# Altium integrated library con-lumberg.IntLib: 62 symbols
Pins are listed as number, name and electrical type; pins without a type are passive.

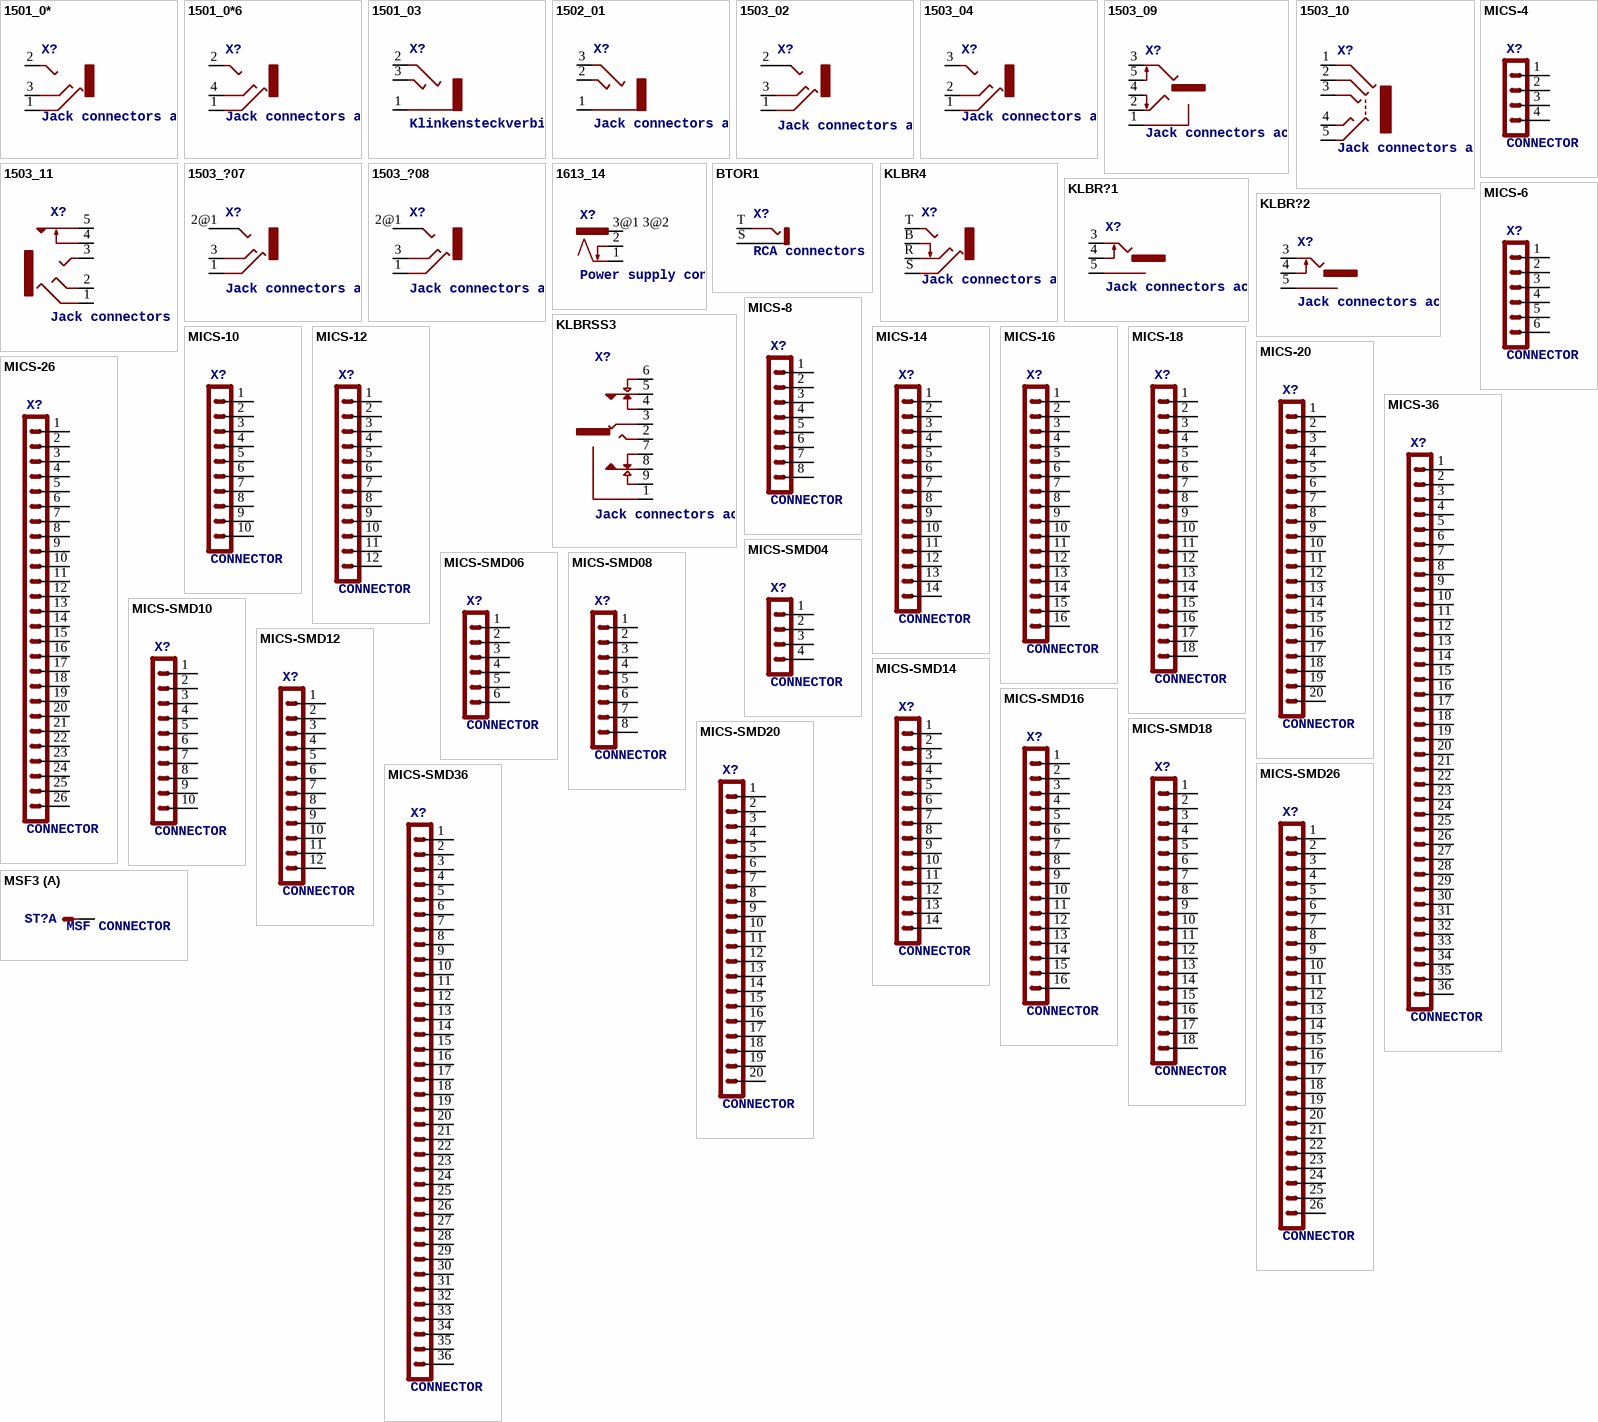
[diagram p0: symbols 1501_0* to MSF3]

## 1501_0*
designator X?, comment Jack connectors according to JISC 6560, 2.5 mm   Klinkensteckverbinder nach JISC 6560, 2,5 mm Source: http://www.lumberg.com/Produkte/PDFs/1501_05.pdfedit 1501_03 http://www.lumberg.com/Produkte/PDFs/1501_06.pdf
OC_FARNELL: 1216977; OC_NEWARK: unknown; OC_FARNELL: 1216978
footprint 1501_05
pins: 1, 2, 3

## 1501_0*6
designator X?, comment Jack connectors according to JISC 6560, 2.5 mm   Klinkensteckverbinder nach JISC 6560, 2,5 mm Source: http://www.lumberg.com/Produkte/PDFs/1501_05.pdfedit 1501_03 http://www.lumberg.com/Produkte/PDFs/1501_06.pdf
OC_FARNELL: 1308867; OC_NEWARK: unknown
footprint 1501_06
pins: 1, 2, 4 3

## 1501_03
designator X?, comment Klinkensteckverbinder nach JISC 6560, 2,5 mm   Jack connectors according to JISC 6560, 2.5 mm Source: http://www.lumberg.com/Produkte/PDFs/1501_03.pdf
OC_FARNELL: 1200127; OC_NEWARK: unknown
footprint 1501_03
pins: 1, 2, 3

## 1502_01
designator X?, comment Jack connectors according to JISC 6560, 3.5 mm   Klinkensteckverbinder nach JISC 6560, 3,5 mm Source: http://www.lumberg.com/Produkte/PDFs/1502_01.pdf
OC_FARNELL: 4739747; OC_NEWARK: unknown
footprint 1502_01
pins: 1, 2 3, 3 2

## 1503_02
designator X?, comment Jack connectors according to JISC 6560, 3.5 mm   Klinkeneinbaukupplung nach JISC 6560, 3,5 mm, 3-polig/stereo, abgewinkelte Ausführung, Surface-Mount-Technik (SMT)   Source: http://www.lumberg.com/Produkte/PDFs/1503_02.pdf
OC_FARNELL: 1216979; OC_NEWARK: unknown
footprint 1503_02
pins: 1, 2, 2@2 2@1, 3

## 1503_04
designator X?, comment Jack connectors according to JISC 6560, 3.5 mm, IP 57   Klinkensteckverbinder nach JISC 6560, 3,5 mm, IP 57 Source: http://www.lumberg.com/Produkte/PDFs/1503_04.pdf
OC_FARNELL: 1216981; OC_NEWARK: unknown
footprint 1503_04
pins: 1, 2 3, 3 2

## 1503_09
designator X?, comment Jack connectors according to JISC 6560, 3.5 mm   Klinkeneinbaukupplung nach JISC 6560, 3,5 mm, 3-polig/ stereo, abgewinkelte Ausführung, mit 2 Öffnern und Lötaugen, für Leiterplatten Rückseitenmontage   Source: http://www.lumberg.com/Produkte/PDFs/1503_09.pdf
OC_FARNELL: 1243244; OC_NEWARK: unknown
footprint 1503_09
pins: 1, 2, 3, 4, 5

## 1503_10
designator X?, comment Jack connectors according to JISC 6560, 3.5 mm   Klinkeneinbaukupplung, 3,5 mm, 4-polig/stereo, abgewinkelte Ausführung Source: http://www.lumberg.de/Produkte/PDFs/1503_10.pdf
OC_FARNELL: 1308868; OC_NEWARK: unknown
footprint 1503_10
pins: 1, 2, 3, 4, 5

## 1503_11
designator X?, comment Jack connectors according to JISC 6560, 3.5 mm   Klinkeneinbaukupplung nach JISC 6560, 3,5 mm, 3-polig/ stereo, stehende Ausführung, mit Öffner, für Leiterplatten Source: http://www.lumberg.com/Produkte/PDFs/1503_11.pdf
OC_FARNELL: 1308869; OC_NEWARK: unknown
footprint 1503_11
pins: 1, 2, 3, 4, 5

## 1503_?07
designator X?, comment Jack connectors according to JISC 6560, 3.5 mm   Klinkensteckverbinder nach JISC 6560, 3,5 mm Source: http://www.lumberg.com/Produkte/PDFs/1503_08.pdf
OC_FARNELL: unknown; OC_NEWARK: unknown
footprint 1503_07
pins: 1, 2@1 2, 2@2 2@1, 3

## 1503_?08
designator X?, comment Jack connectors according to JISC 6560, 3.5 mm   Klinkensteckverbinder nach JISC 6560, 3,5 mm Source: http://www.lumberg.com/Produkte/PDFs/1503_08.pdf
OC_FARNELL: unknown; OC_NEWARK: unknown
footprint 1503_08
pins: 1, 2@1 2, 2@2 2@1, 3

## 1613_14
designator X?, comment Power supply connectors / Netzgeräte-Steckverbinder   Source:  Data sheet
MPN: 1613 14; MF: LUMBERG; OC_FARNELL: 1243245
footprint 1613_14
pins: 1, 2, 3@1 3@2 3

## BTOR1
designator X?, comment RCA connectors according to JEITA RC-5231 Cinch   RCA-Einbaukupplung nach JEITA RC-5231, stehende Ausführung Source: http://www.lumberg.de/Produkte/PDFs/BTOR1.pdf
OC_FARNELL: 1217030; OC_NEWARK: unknown
footprint BTOR1
pins: S 2, S@1 2@1, S@2 2@2, S@3 2@3, T 1

## KLBR4
designator X?, comment Jack connectors according to JISC 6560, 3.5 mm   Klinkeneinbaukupplung nach JISC 6560, 3,5 mm, 3-polig/ stereo, abgewinkelte Ausführung, mit Öffner, für Leiterplatten   Source:  Data sheet
MPN: KLBR 4; OC_FARNELL: 1217016; OC_NEWARK: 97K2709
footprint KLBR4
pins: B, R, S, T

## KLBR?1
designator X?, comment Jack connectors according to JISC 6560, 2.5mm / 3.5 mm   Klinkensteckverbinder nach JISC 6560, 2.5mm / 3,5 mm Source: http://www.lumberg.com/Produkte/PDFs/KLBR2.pdf  www.lumberg.com/Produkte/PDFs/KLBR1.pdf
MPN: KLBR 1; OC_FARNELL: 1200140; OC_NEWARK: 97K2707
footprint KLBR1
pins: 3, 4, 5

## KLBR?2
designator X?, comment Jack connectors according to JISC 6560, 2.5mm / 3.5 mm   Klinkensteckverbinder nach JISC 6560, 2.5mm / 3,5 mm Source: http://www.lumberg.com/Produkte/PDFs/KLBR2.pdf  www.lumberg.com/Produkte/PDFs/KLBR1.pdf
OC_FARNELL: unknown; OC_NEWARK: unknown
footprint KLBR2
pins: 3, 4, 5

## KLBRSS3
designator X?, comment Jack connectors according to JISC 6560, 6.35 mm   Klinkeneinbaukupplung nach JISC 6560, 6,35 mm, 3-polig/stereo, abgewinkelte Ausführung, mit 2 Umschaltern, Leiterplatten Rückseitenmontage Source: http://www.lumberg.de/Produkte/PDFs/KLBRSS3.pdf
OC_FARNELL: 1200145; OC_NEWARK: unknown
footprint KLBRSS3
pins: 1, 2, 3, 4, 5, 6, 7, 8, 9

## MICS-4
designator X?, comment CONNECTOR
OC_FARNELL: unknown; OC_NEWARK: unknown
footprint MICS-4
pins: 1, 2, 3, 4

## MICS-6
designator X?, comment CONNECTOR
OC_FARNELL: unknown; OC_NEWARK: unknown
footprint MICS-6
pins: 1, 2, 3, 4, 5, 6

## MICS-8
designator X?, comment CONNECTOR
OC_FARNELL: unknown; OC_NEWARK: unknown
footprint MICS-8
pins: 1, 2, 3, 4, 5, 6, 7, 8

## MICS-10
designator X?, comment CONNECTOR
OC_FARNELL: unknown; OC_NEWARK: unknown
footprint MICS-10
pins: 1, 2, 3, 4, 5, 6, 7, 8, 9, 10

## MICS-12
designator X?, comment CONNECTOR
OC_FARNELL: 808910; OC_NEWARK: unknown
footprint MICS-12
pins: 1, 2, 3, 4, 5, 6, 7, 8, 9, 10, 11, 12

## MICS-14
designator X?, comment CONNECTOR
OC_FARNELL: unknown; OC_NEWARK: unknown
footprint MICS-14
pins: 1, 2, 3, 4, 5, 6, 7, 8, 9, 10, 11, 12, 13, 14

## MICS-16
designator X?, comment CONNECTOR
OC_FARNELL: unknown; OC_NEWARK: unknown
footprint MICS-16
pins: 1, 2, 3, 4, 5, 6, 7, 8, 9, 10, 11, 12, 13, 14, 15, 16

## MICS-18
designator X?, comment CONNECTOR
OC_FARNELL: unknown; OC_NEWARK: unknown
footprint MICS-18
pins: 1, 2, 3, 4, 5, 6, 7, 8, 9, 10, 11, 12, 13, 14, 15, 16, 17, 18

## MICS-20
designator X?, comment CONNECTOR
MPN: MICS 20; OC_FARNELL: 1216998; OC_NEWARK: 97K5081
footprint MICS-20
pins: 1, 2, 3, 4, 5, 6, 7, 8, 9, 10, 11, 12, 13, 14, 15, 16, 17, 18, 19, 20

## MICS-26
designator X?, comment CONNECTOR
OC_FARNELL: unknown; OC_NEWARK: unknown
footprint MICS-26
pins: 1, 2, 3, 4, 5, 6, 7, 8, 9, 10, 11, 12, 13, 14, 15, 16, 17, 18, 19, 20, 21, 22, 23, 24, 25, 26

## MICS-36
designator X?, comment CONNECTOR
OC_FARNELL: 871266; OC_NEWARK: unknown
footprint MICS-36
pins: 1, 2, 3, 4, 5, 6, 7, 8, 9, 10, 11, 12, 13, 14, 15, 16, 17, 18, 19, 20, 21, 22, 23, 24, 25, 26, 27, 28, 29, 30, 31, 32, 33, 34, 35, 36

## MICS-SMD04
designator X?, comment CONNECTOR
OC_FARNELL: unknown; OC_NEWARK: unknown
footprint MICSMD04
pins: 1, 2, 3, 4

## MICS-SMD06
designator X?, comment CONNECTOR
OC_FARNELL: unknown; OC_NEWARK: unknown
footprint MICSMD06
pins: 1, 2, 3, 4, 5, 6

## MICS-SMD08
designator X?, comment CONNECTOR
OC_FARNELL: unknown; OC_NEWARK: unknown
footprint MICSMD08
pins: 1, 2, 3, 4, 5, 6, 7, 8

## MICS-SMD10
designator X?, comment CONNECTOR
OC_FARNELL: unknown; OC_NEWARK: unknown
footprint MICSMD10
pins: 1, 2, 3, 4, 5, 6, 7, 8, 9, 10

## MICS-SMD12
designator X?, comment CONNECTOR
OC_FARNELL: unknown; OC_NEWARK: unknown
footprint MICSMD12
pins: 1, 2, 3, 4, 5, 6, 7, 8, 9, 10, 11, 12

## MICS-SMD14
designator X?, comment CONNECTOR
OC_FARNELL: unknown; OC_NEWARK: unknown
footprint MICSMD14
pins: 1, 2, 3, 4, 5, 6, 7, 8, 9, 10, 11, 12, 13, 14

## MICS-SMD16
designator X?, comment CONNECTOR
OC_FARNELL: unknown; OC_NEWARK: unknown
footprint MICSMD16
pins: 1, 2, 3, 4, 5, 6, 7, 8, 9, 10, 11, 12, 13, 14, 15, 16

## MICS-SMD18
designator X?, comment CONNECTOR
OC_FARNELL: unknown; OC_NEWARK: unknown
footprint MICSMD18
pins: 1, 2, 3, 4, 5, 6, 7, 8, 9, 10, 11, 12, 13, 14, 15, 16, 17, 18

## MICS-SMD20
designator X?, comment CONNECTOR
OC_FARNELL: unknown; OC_NEWARK: unknown
footprint MICSMD20
pins: 1, 2, 3, 4, 5, 6, 7, 8, 9, 10, 11, 12, 13, 14, 15, 16, 17, 18, 19, 20

## MICS-SMD26
designator X?, comment CONNECTOR
OC_FARNELL: unknown; OC_NEWARK: unknown
footprint MICSMD26
pins: 1, 2, 3, 4, 5, 6, 7, 8, 9, 10, 11, 12, 13, 14, 15, 16, 17, 18, 19, 20, 21, 22, 23, 24, 25, 26

## MICS-SMD36
designator X?, comment CONNECTOR
OC_FARNELL: unknown; OC_NEWARK: unknown
footprint MICSMD36
pins: 1, 2, 3, 4, 5, 6, 7, 8, 9, 10, 11, 12, 13, 14, 15, 16, 17, 18, 19, 20, 21, 22, 23, 24, 25, 26, 27, 28, 29, 30, 31, 32, 33, 34, 35, 36

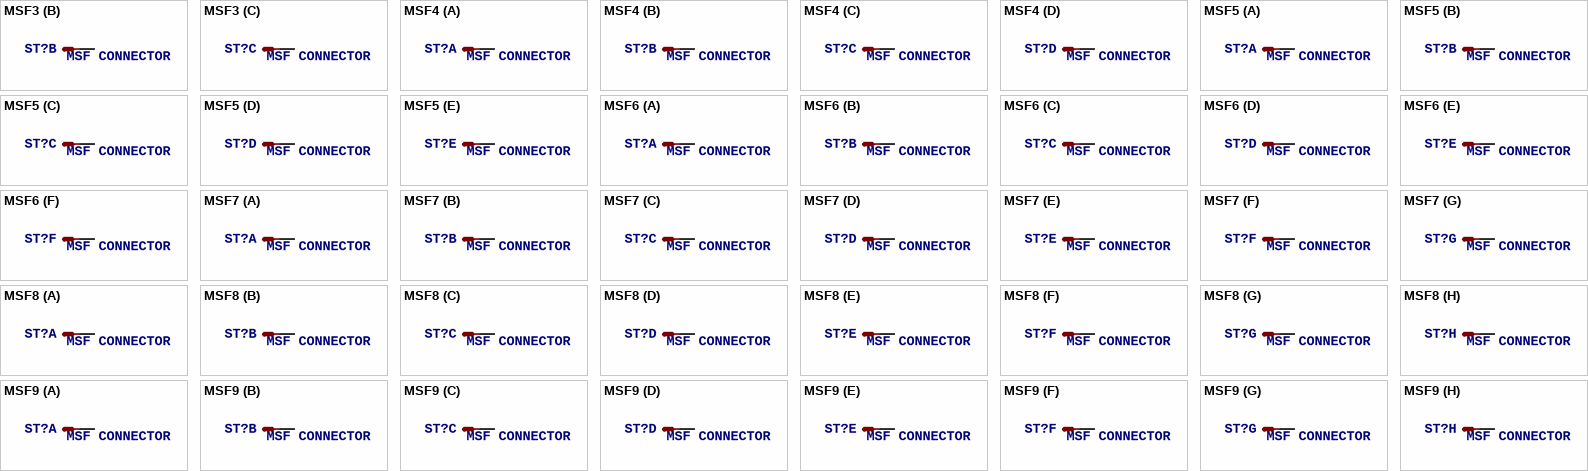
[diagram p1: symbols MSF3 to MSF9]

## MSF3
designator ST?, comment MSF CONNECTOR
OC_FARNELL: unknown; OC_NEWARK: unknown
footprint MSF3
part A pins: 1 S
part B pins: 2 S
part C pins: 3 S

## MSF4
designator ST?, comment MSF CONNECTOR
OC_FARNELL: unknown; OC_NEWARK: unknown
footprint MSF4
part A pins: 1 S
part B pins: 2 S
part C pins: 3 S
part D pins: 4 S

## MSF5
designator ST?, comment MSF CONNECTOR
OC_FARNELL: unknown; OC_NEWARK: unknown
footprint MSF5
part A pins: 1 S
part B pins: 2 S
part C pins: 3 S
part D pins: 4 S
part E pins: 5 S

## MSF6
designator ST?, comment MSF CONNECTOR
OC_FARNELL: unknown; OC_NEWARK: unknown
footprint MSF6
part A pins: 1 S
part B pins: 2 S
part C pins: 3 S
part D pins: 4 S
part E pins: 5 S
part F pins: 6 S

## MSF7
designator ST?, comment MSF CONNECTOR
OC_FARNELL: unknown; OC_NEWARK: unknown
footprint MSF7
part A pins: 1 S
part B pins: 2 S
part C pins: 3 S
part D pins: 4 S
part E pins: 5 S
part F pins: 6 S
part G pins: 7 S

## MSF8
designator ST?, comment MSF CONNECTOR
OC_FARNELL: unknown; OC_NEWARK: unknown
footprint MSF8
part A pins: 1 S
part B pins: 2 S
part C pins: 3 S
part D pins: 4 S
part E pins: 5 S
part F pins: 6 S
part G pins: 7 S
part H pins: 8 S

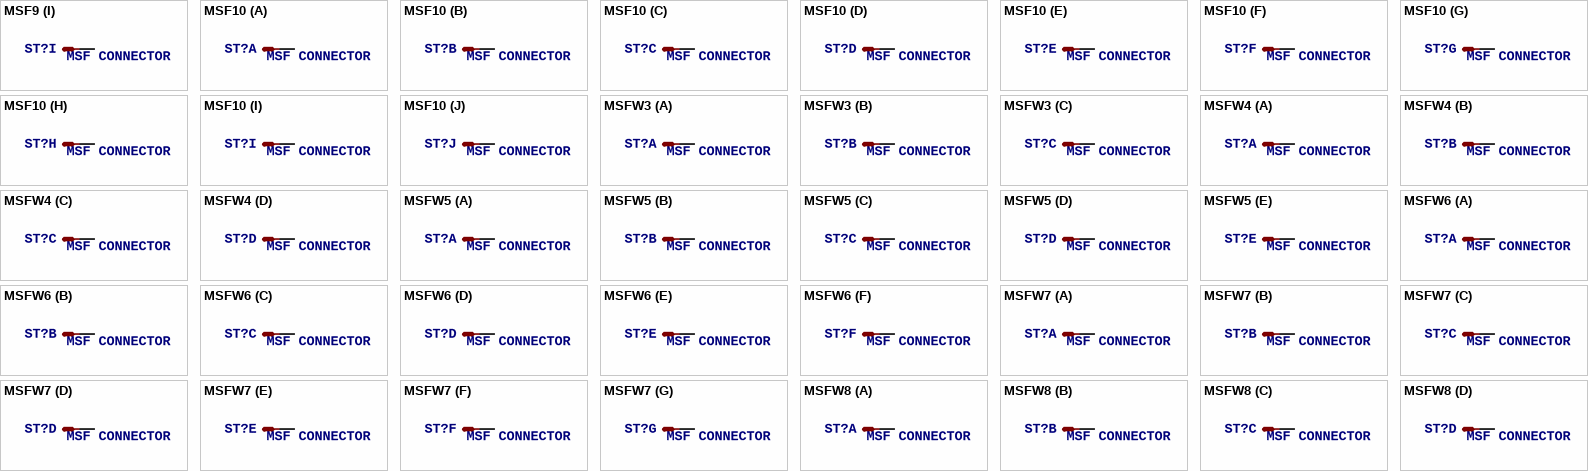
[diagram p2: symbols MSF9 to MSFW8]

## MSF9
designator ST?, comment MSF CONNECTOR
OC_FARNELL: unknown; OC_NEWARK: unknown
footprint MSF9
part A pins: 1 S
part B pins: 2 S
part C pins: 3 S
part D pins: 4 S
part E pins: 5 S
part F pins: 6 S
part G pins: 7 S
part H pins: 8 S
part I pins: 9 S

## MSF10
designator ST?, comment MSF CONNECTOR
MPN: 2,5 MSF 10; OC_FARNELL: 1212155; OC_NEWARK: 96K6056
footprint MSF10
part A pins: 1 S
part B pins: 2 S
part C pins: 3 S
part D pins: 4 S
part E pins: 5 S
part F pins: 6 S
part G pins: 7 S
part H pins: 8 S
part I pins: 9 S
part J pins: 10 S

## MSFW3
designator ST?, comment MSF CONNECTOR
OC_FARNELL: unknown; OC_NEWARK: unknown
footprint MSFW3
part A pins: 1 S
part B pins: 2 S
part C pins: 3 S

## MSFW4
designator ST?, comment MSF CONNECTOR
OC_FARNELL: unknown; OC_NEWARK: unknown
footprint MSFW4
part A pins: 1 S
part B pins: 2 S
part C pins: 3 S
part D pins: 4 S

## MSFW5
designator ST?, comment MSF CONNECTOR
OC_FARNELL: unknown; OC_NEWARK: unknown
footprint MSFW5
part A pins: 1 S
part B pins: 2 S
part C pins: 3 S
part D pins: 4 S
part E pins: 5 S

## MSFW6
designator ST?, comment MSF CONNECTOR
OC_FARNELL: unknown; OC_NEWARK: unknown
footprint MSFW6
part A pins: 1 S
part B pins: 2 S
part C pins: 3 S
part D pins: 4 S
part E pins: 5 S
part F pins: 6 S

## MSFW7
designator ST?, comment MSF CONNECTOR
OC_FARNELL: unknown; OC_NEWARK: unknown
footprint MSFW7
part A pins: 1 S
part B pins: 2 S
part C pins: 3 S
part D pins: 4 S
part E pins: 5 S
part F pins: 6 S
part G pins: 7 S

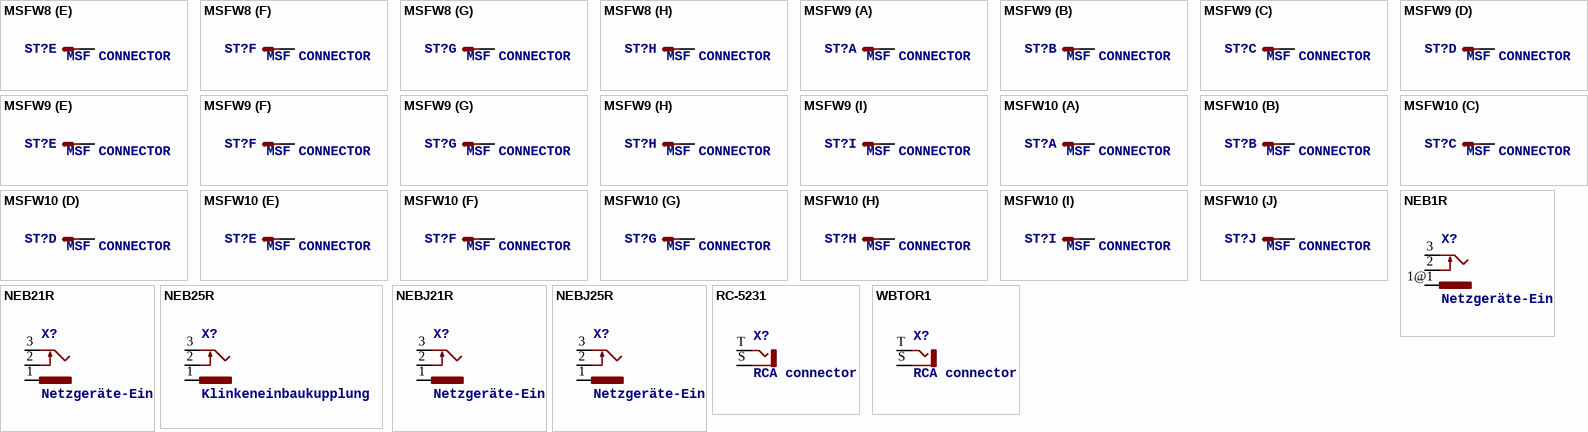
[diagram p3: symbols MSFW8 to WBTOR1]

## MSFW8
designator ST?, comment MSF CONNECTOR
OC_FARNELL: unknown; OC_NEWARK: unknown
footprint MSFW8
part A pins: 1 S
part B pins: 2 S
part C pins: 3 S
part D pins: 4 S
part E pins: 5 S
part F pins: 6 S
part G pins: 7 S
part H pins: 8 S

## MSFW9
designator ST?, comment MSF CONNECTOR
OC_FARNELL: unknown; OC_NEWARK: unknown
footprint MSFW9
part A pins: 1 S
part B pins: 2 S
part C pins: 3 S
part D pins: 4 S
part E pins: 5 S
part F pins: 6 S
part G pins: 7 S
part H pins: 8 S
part I pins: 9 S

## MSFW10
designator ST?, comment MSF CONNECTOR
OC_FARNELL: unknown; OC_NEWARK: unknown
footprint MSFW10
part A pins: 1 S
part B pins: 2 S
part C pins: 3 S
part D pins: 4 S
part E pins: 5 S
part F pins: 6 S
part G pins: 7 S
part H pins: 8 S
part I pins: 9 S
part J pins: 10 S

## NEB1R
designator X?, comment Netzgeräte-Einbaukupplung nach DIN 45323, abgewinkelte Ausführung, mit Flansch und Öffner   Source: http://www.lumberg.com/Produkte/PDFs/NEB1R.pdf
OC_FARNELL: unknown; OC_NEWARK: unknown
footprint NEB1R
pins: 1@1, 1@2, 2, 3

## NEB21R
designator X?, comment Netzgeräte-Einbaukupplung abgewinkelte Ausführung mit Öffner   Source: http://www.lumberg.com/Produkte/PDFs/NEB21R.pdf
MPN: NEB 21 R; OC_FARNELL: 1217037; OC_NEWARK: 97K6458
footprint NEB21R
pins: 1, 2, 3

## NEB25R
designator X?, comment Klinkeneinbaukupplung
OC_FARNELL: unknown; OC_NEWARK: unknown
footprint NEB25R
pins: 1, 2, 3

## NEBJ21R
designator X?, comment Netzgeräte-Einbaukupplung abgewinkelte Ausführung mit Öffner   Source: http://www.lumberg.com/Produkte/PDFs/NEB_J21R.pdf MARUSHIN ELECTRIC MFG.CO. LTD - Draw No: MJ196P - NEB J 21 R.pdf
MPN: NEB/J 21 R; OC_FARNELL: 1217039; OC_NEWARK: 97K6460
footprint NEBJ21R
pins: 1, 2, 3

## NEBJ25R
designator X?, comment Netzgeräte-Einbaukupplung abgewinkelte Ausführung mit Öffner   Source: http://www.lumberg.com/Produkte/PDFs/NEB_J25R.pdf MARUSHIN ELECTRIC MFG.CO. LTD - Draw No: MJ196P -NEB J 25 R.pdf
MPN: NEB/J 25 R; OC_FARNELL: 1200151; OC_NEWARK: 97K6462
footprint NEBJ21R
pins: 1, 2, 3

## RC-5231
designator X?, comment RCA connectors according to JEITA RC-5231   RCA-Steckverbinder nach JEITA RC-5231   Source: RCA- Stecker 2poolig.pdf
footprint RC-5231
pins: S, T

## WBTOR1
designator X?, comment RCA connectors according to JEITA RC-5231 Cinch   RCA-Einbaukupplung nach JEITA RC-5231, abgewinkelte Ausführung Source: http://www.lumberg.de/Produkte/PDFs/WBTOR1.pdf
MPN: WBTOR 1 BLACK; OC_FARNELL: 1200146; OC_NEWARK: 98K2588
footprint WBTOR1
pins: S, T